# Altium integrated library NCP553.IntLib: 1 symbol
Pins are listed as number, name and electrical type; pins without a type are passive.

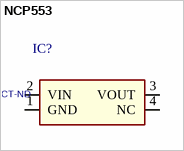
[diagram p0: symbol NCP553]

## NCP553
designator IC?, comment NCP553SQ33T1GOSCT-ND
ID: NCP553SQ33T1GOSCT-ND; PDF: http://www.onsemi.com/pub_link/Collateral/NCP553-D.PDF; PRICE: 0.62000; BUY_LINK: http://www.digikey.com/product-detail/en/NCP553SQ33T1G/NCP553SQ33T1GOSCT-ND/3462405
footprint SC82-AB
pins: 1 GND, 2 VIN, 3 VOUT, 4 NC